# Altium footprint library SOIC.PcbLib: 5 footprints
Each footprint in its own frame and in the unit in brackets; x right, y up, seen from the top. Pads: shape width x height; smd on the part's side, far side on the other; paste and mask are expansions set on the pad; w line width, h text height; cw(c..) or ccw(c..) is an arc to the next point about the centre after c.
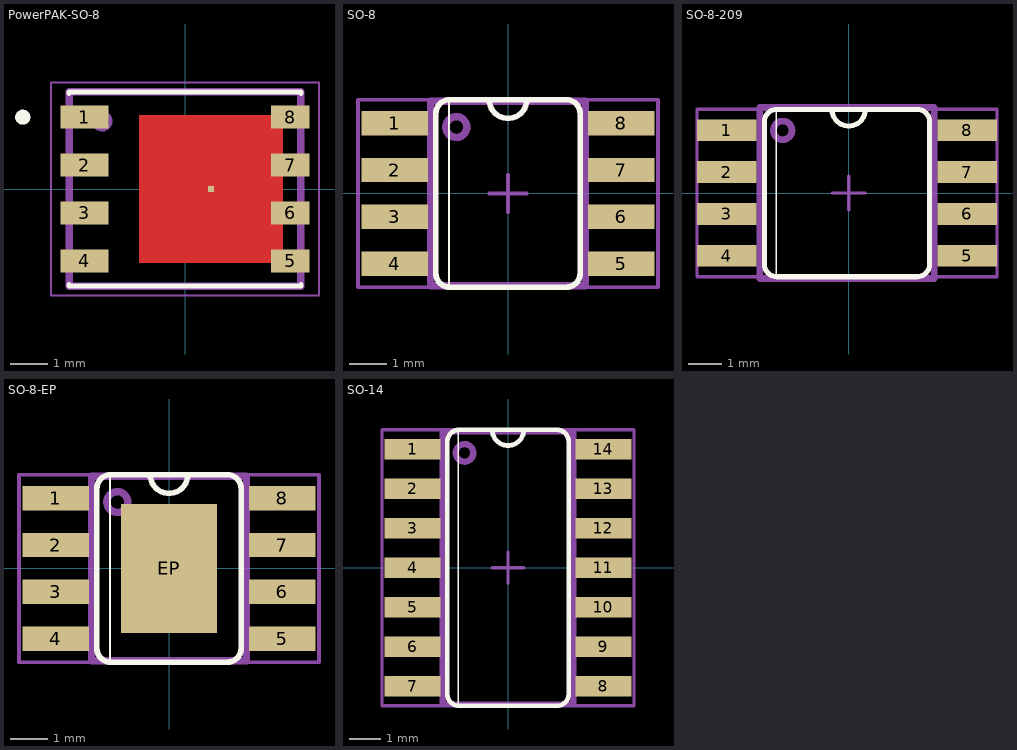
[diagram p0: the footprints below, top view; thin cyan lines are the x and y axes]

## PowerPAK-SO-8 [mm]
pads (9):
  rect 1.27x0.61 smd: 1(-2.67,1.905) 2(-2.67,0.635) 3(-2.67,-0.635) 4(-2.67,-1.905)
  rect 1.02x0.61 smd: 5(2.795,-1.905) 6(2.795,-0.635) 7(2.795,0.635) 8(2.795,1.905)
  rect 0.15x0.15 smd paste+1.125 mask+1.88: 9(0.69,0)
Top Layer:
  region: 2.595,-1.955 -1.215,-1.955 -1.215,1.955 2.595,1.955
Top Overlay:
  circle w0.2: c-4.305,1.905 r0.1
  lines w0.127: -3.075,-2.53 -3.075,-2.575 3.075,-2.575 3.075,-2.53 ; -3.075,2.53 -3.075,2.575 3.075,2.575 3.075,2.53 ; -2.005,2.575 2,2.575 ; -2,-2.575 2,-2.575
Top Assembly (Mech3):
  circle w0.1: c-2.2,1.8 r0.224
  lines w0.2: -3.075,-2.575 3.075,-2.575 3.075,2.575 -3.075,2.575 -3.075,-2.575
Top Courtyard:
  lines w0.05: -3.555,-2.825 3.555,-2.825 3.555,2.825 -3.555,2.825 -3.555,-2.825
  lines w0.1: -0.508,0 0.508,0 ; 0,-0.508 0,0.508
3D body "step_temp.STEP": height 1.12, standoff 0, extent -3.073,-2.578 3.073,2.578

## SO-8 [mil]
height 61.02
pads (8):
  rect 70.87x25.98 smd: 1(-121,75)
  rect 70.87x26 smd: 2(-121,25) 3(-121,-25) 4(-121,-75) 5(121,-75) 6(121,-25) 7(121,25) 8(120.98,75)
Top Overlay:
  lines w2: -63,-100 -63,100
  lines w6: -20,100 ccw(c0,100) 20,100 ; -20,100 -62,100 ccw(c-62,85) -77,85 -77,-85 ccw(c-62,-85) -62,-100 62,-100 ccw(c62,-85) 77,-85 77,85 ccw(c62,85) 62,100 20,100 ; -20,100 20,100
Top Assembly (Mech3):
  circle w7.87: c-55.12,70.87 r11.14
  lines w7.87: -82.68,-98.43 -82.68,98.43 82.68,98.43 82.68,-98.43 -82.68,-98.43
Top Courtyard:
  lines w3.94: -20,0 20,0 ; 0,-20 0,20 ; -160,-100 160,-100 160,100 -160,100 -160,-100
3D body "S08.stp": height 61.02, standoff 0, extent -118.1,-96.46 118.12,96.45

## SO-8-209 [mm] "0.209\""
height 1.55
pads (8):
  rect 1.8x0.66 smd: 1(-3.7,1.905) 2(-3.7,0.635) 3(-3.7,-0.635) 4(-3.7,-1.905) 5(3.6,-1.905) 6(3.6,-0.635) 7(3.6,0.635) 8(3.6,1.905)
Top Overlay:
  lines w0.051: -2.2,-2.54 -2.2,2.54
  lines w0.152: -0.508,2.54 ccw(c0,2.54) 0.508,2.54 ; -0.508,2.54 -2.175,2.54 ccw(c-2.175,2.159) -2.556,2.159 -2.556,-2.159 ccw(c-2.175,-2.159) -2.175,-2.54 2.075,-2.54 ccw(c2.075,-2.159) 2.456,-2.159 2.456,2.159 ccw(c2.075,2.159) 2.075,2.54 0.508,2.54 ; -0.508,2.54 0.508,2.54
Top Assembly (Mech3):
  circle w0.2: c-2,1.9 r0.283
  lines w0.2: -2.7,-2.6 -2.7,2.6 2.6,2.6 2.6,-2.6 -2.7,-2.6
Top Courtyard:
  lines w0.1: -0.508,0 0.508,0 ; 0,-0.508 0,0.508 ; -4.6,-2.54 4.5,-2.54 4.5,2.54 -4.6,2.54 -4.6,-2.54
3D body "User Library-SOIC8_(ATTINY12).STEP": height 2.3, standoff -0.02, extent -4.196,-2.69 4.196,2.69

## SO-8-EP [mil]
height 61.02
pads (9):
  rect 70.87x25.98 smd: 1(-121,75)
  rect 70.87x26 smd: 2(-121,25) 3(-121,-25) 4(-121,-75) 5(121,-75) 6(121,-25) 7(121,25) 8(120.98,75)
  rect 102.36x137.8 smd: EP(0,0)
Top Overlay:
  lines w2: -63,-100 -63,100
  lines w6: -20,100 ccw(c0,100) 20,100 ; -20,100 20,100 ; -20,100 -62,100 ccw(c-62,85) -77,85 -77,-85 ccw(c-62,-85) -62,-100 62,-100 ccw(c62,-85) 77,-85 77,85 ccw(c62,85) 62,100 20,100
Top Assembly (Mech3):
  circle w7.87: c-55.12,70.87 r11.14
  lines w7.87: -82.68,-98.43 82.68,-98.43 82.68,98.43 -82.68,98.43 -82.68,-98.43
Top Courtyard:
  lines w3.94: -20,0 20,0 ; 0,-20 0,20 ; -160,-100 -160,100 160,100 160,-100 -160,-100
3D body "S08.stp": height 61.02, standoff 0, extent -118.1,-96.46 118.12,96.45

## SO-14 [mil]
height 61.02
pads (14):
  rect 70.87x25.98 smd: 1(-121,150)
  rect 70.87x26 smd: 2(-121,100) 3(-121,50) 4(-121,0) 5(-121,-50) 6(-121,-100) 7(-121,-150) 8(121,-150) 9(121,-100) 10(121,-50) 11(121,0) 12(121,50) 13(121,100) 14(120.98,150)
Top Overlay:
  lines w2: -63,-175 -63,175
  lines w6: -20,175 ccw(c0,175) 20,175 ; -20,175 20,175 ; -20,175 -62,175 ccw(c-62,160) -77,160 -77,-160 ccw(c-62,-160) -62,-175 62,-175 ccw(c62,-160) 77,-160 77,160 ccw(c62,160) 62,175 20,175
Top Assembly (Mech3):
  circle w7.87: c-55.12,145.67 r11.14
  lines w7.87: -82.68,-173.23 82.68,-173.23 82.68,173.23 -82.68,173.23 -82.68,-173.23
Top Courtyard:
  lines w3.94: -20,0 20,0 ; 0,-20 0,20 ; -160,-175 -160,175 160,175 160,-175 -160,-175
3D body "S014.stp": height 61.02, standoff 0, extent -118.1,-170.28 118.12,170.27